# EAGLE library part TPS61032RSAR (library TPS61032RSAR)
SYNCHRONOUS BOOST CONVERTER
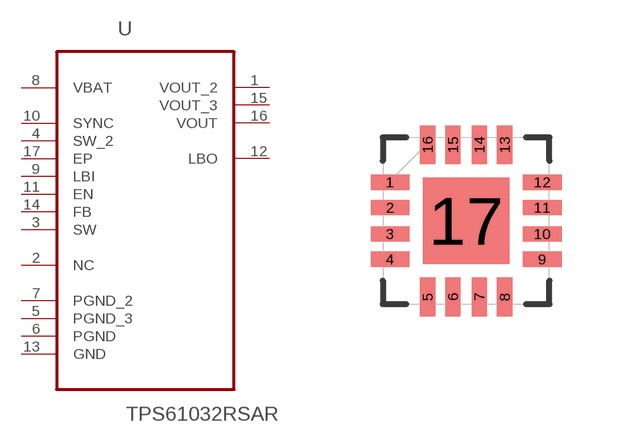
[diagram p0: symbol with the pads of QFN65P400X400X100-17N; footprint QFN65P400X400X100-17N]

Designator prefix U

## TPS61032RSAR (Availability: Unavailable; Description: 5-V Output, 1-A, 96% Efficient Boost Converter w/20uA Iq in TSSOP-16 16-QFN -40 to 85; MF: Texas Instruments; MP: TPS61032RSAR; Package: VQFN-16 Texas Instruments; Price: None)  [QFN65P400X400X100-17N]
1  VOUT_2  out
2  NC  nc
3  SW  in
4  SW_2  in
5  PGND_3  pas
6  PGND  pas
7  PGND_2  pas
8  VBAT  in
9  LBI  in
10  SYNC  in
11  EN  in
12  LBO  out
13  GND  pas
14  FB  in
15  VOUT_3  out
16  VOUT  out
17  EP  pas

## Footprint QFN65P400X400X100-17N (pad centres in mm)
smd 0.965 x 0.381: 1 -1.905,0.965; 2 -1.905,0.33; 3 -1.905,-0.33; 4 -1.905,-0.965; 9 1.905,-0.965; 10 1.905,-0.33; 11 1.905,0.33; 12 1.905,0.965
smd 0.381 x 0.965: 5 -0.965,-1.905; 6 -0.33,-1.905; 7 0.33,-1.905; 8 0.965,-1.905; 13 0.965,1.905; 14 0.33,1.905; 15 -0.33,1.905; 16 -0.965,1.905
smd 2.159 x 2.159: 17 0,0